# EAGLE library part 595-541-165-ULN2803_74HC541 (library MBHP_CORE_STM32F4v1.1.2)
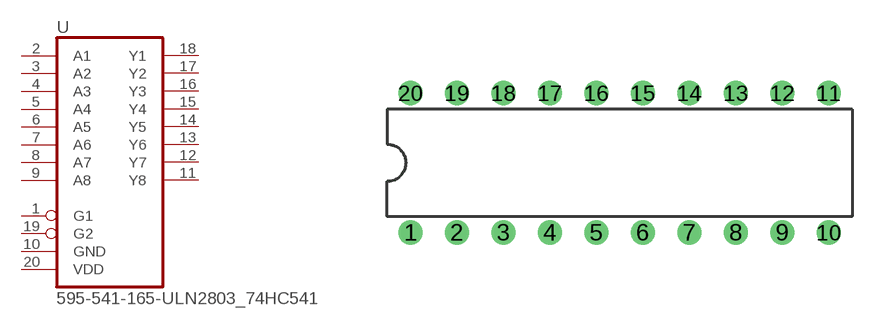
[diagram p2: symbol with the pads of 595-541-165-ULN2803_DIL20; footprint 595-541-165-ULN2803_DIL20]

Designator prefix -

## 595-541-165-ULN2803_74HC541  [595-541-165-ULN2803_DIL20]
1  G1  in
2  A1  in
3  A2  in
4  A3  in
5  A4  in
6  A5  in
7  A6  in
8  A7  in
9  A8  in
10  GND  pwr
11  Y8  hiz
12  Y7  hiz
13  Y6  hiz
14  Y5  hiz
15  Y4  hiz
16  Y3  hiz
17  Y2  hiz
18  Y1  hiz
19  G2  in
20  VDD  pwr

## Footprint 595-541-165-ULN2803_DIL20 (pad centres in mm)
drill 0.813: 1 -11.43,-3.81; 2 -8.89,-3.81; 3 -6.35,-3.81; 4 -3.81,-3.81; 5 -1.27,-3.81; 6 1.27,-3.81; 7 3.81,-3.81; 8 6.35,-3.81; 9 8.89,-3.81; 10 11.43,-3.81; 11 11.43,3.81; 12 8.89,3.81; 13 6.35,3.81; 14 3.81,3.81; 15 1.27,3.81; 16 -1.27,3.81; 17 -3.81,3.81; 18 -6.35,3.81; 19 -8.89,3.81; 20 -11.43,3.81